# Altium footprint library mems_and_imu_modules.PcbLib: 4 footprints
Each footprint in its own frame and in the unit in brackets; x right, y up, seen from the top. Pads: shape width x height; smd on the part's side, far side on the other; paste and mask are expansions set on the pad; w line width, h text height; cw(c..) or ccw(c..) is an arc to the next point about the centre after c.
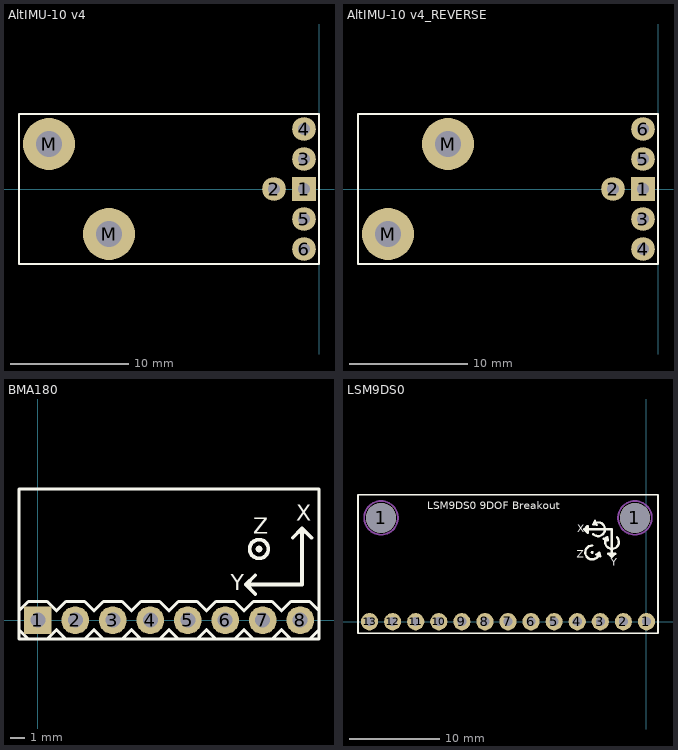
[diagram p0: the footprints below, top view; thin cyan lines are the x and y axes]

## AltIMU-10 v4 [mm] "Pololu Gyro, Accelerometer, Compass, and Altimeter (L3GD20H, LSM303D, and LPS25H Carrier)"
pads (8):
  rect 2x2 hole 1: 1(-1.27,0)
  round 2 hole 1: 2(-3.81,0) 3(-1.27,2.54) 4(-1.27,5.08) 5(-1.27,-2.54) 6(-1.27,-5.08)
  round 4.4 hole 2.2: M(-22.86,3.81) M(-17.78,-3.81)
Top Overlay:
  lines w0.2: -25.4,-6.35 0,-6.35 0,6.35 -25.4,6.35 -25.4,-6.35
3D body: height 1, standoff 0, extent -25.4,-6.35 0,6.35

## AltIMU-10 v4_REVERSE [mm] "Pololu Gyro, Accelerometer, Compass, and Altimeter (L3GD20H, LSM303D, and LPS25H Carrier)"
pads (8):
  rect 2x2 hole 1: 1(-1.27,0)
  round 2 hole 1: 2(-3.81,0) 3(-1.27,-2.54) 4(-1.27,-5.08) 5(-1.27,2.54) 6(-1.27,5.08)
  round 4.4 hole 2.2: M(-22.86,-3.81) M(-17.78,3.81)
Top Overlay:
  lines w0.2: -25.4,-6.35 0,-6.35 0,6.35 -25.4,6.35 -25.4,-6.35
3D body: height 1, standoff 0, extent -25.4,-6.35 0,6.35

## BMA180 [mil] "SEN-09723 (Triple Axis Accelerometer Breakout - BMA180)"
pads (8):
  rect 74x74 hole 40: 1(0,0)
  round 74 hole 40: 2(100,0) 3(200,0) 4(300,0) 5(400,0) 6(500,0) 7(600,0) 8(700,0)
Top Layer:
  lines w10: 299,2 300,0 ; 400,0 402,2
Top Overlay:
  circle w10: c590,190 r25
  circle w8: c590,190 r5
  lines w8: 590,190 590,195 ; -50,-50 -50,350 750,350 750,-50 -50,-50 ; -50,-25 -25,-50 25,-50 50,-25 75,-50 125,-50 150,-25 175,-50 225,-50 250,-25 275,-50 325,-50 350,-25 375,-50 425,-50 450,-25 475,-50 525,-50 550,-25 575,-50 625,-50 650,-25 675,-50 725,-50 750,-25 750,25 725,50 675,50 650,25 625,50 575,50 550,25 525,50 475,50 450,25 425,50 375,50 350,25 325,50 275,50 250,25 225,50 175,50 150,25 125,50 75,50 50,25 25,50 -25,50 -50,25 -50,-25
  lines w10: 580,70 555,95 ; 580,120 555,95 ; 680,220 705,245 ; 730,220 705,245 ; 555,95 705,95 705,245
  text "Y" at 515,80 h42.5
  text "Z" at 575,230 h42.5
  text "X" at 690,265 h42.5
Mechanical 16:
  rectangle: 690,-10 710,10
  rectangle: -10,-10 10,10
  rectangle: 90,-10 110,10
  rectangle: 190,-10 210,10
  rectangle: 290,-10 310,10
  rectangle: 390,-10 410,10
  rectangle: 490,-10 510,10
  rectangle: 590,-10 610,10

## LSM9DS0 [mm] "SEN-12636 (SparkFun 9 Degrees of Freedom IMU Breakout - LSM9DS0)"
pads (15):
  round 3.302 hole 3.302: 1(-29.21,11.43) 1(-1.27,11.43)
  round 1.9 hole 1: 1(0,0) 2(-2.54,0) 3(-5.08,0) 4(-7.62,0) 5(-10.16,0) 6(-12.7,0) 7(-15.24,0) 8(-17.78,0) 9(-20.32,0) 10(-22.86,0) 11(-25.4,0) 12(-27.94,0) 13(-30.48,0)
Top Overlay:
  circle w0.178: c-5.969,7.62 r0.076
  lines w0.127: -5.791,10.795 -5.69,10.693 ; -5.334,7.493 -5.207,7.493 ; -4.42,9.119 -4.318,9.017
  lines w0.203: -31.75,-1.27 1.27,-1.27 1.27,13.97 -31.75,13.97 -31.75,-1.27
  lines w0.254: -5.969,8.382 ccw(c-5.969,7.62) -5.207,7.62 ; -5.842,9.627 ccw(c-5.321,10.173) -5.867,10.693 ; -5.639,10.795 -5.639,10.922 ; -5.309,7.391 -5.232,7.29 ; -4.547,8.966 -4.42,8.966 ; -3.251,9.296 cw(c-3.797,8.776) -4.318,9.322 ; -6.858,10.16 -6.477,9.779 -6.477,10.541 -6.858,10.16 ; -6.858,10.16 -3.81,10.16 -3.81,7.112 ; -5.867,10.693 -5.664,11.1 -5.486,10.643 -5.867,10.693 ; -5.207,7.62 -5.08,7.188 -5.537,7.391 -5.207,7.62 ; -4.318,9.322 -4.724,9.119 -4.267,8.941 -4.318,9.322 ; -3.81,7.112 -4.191,7.493 -3.429,7.493 -3.81,7.112
  text "LSM9DS0 9DOF Breakout" at -24.147,12.393 h0.86
  text "Z" at -7.693,7.059 h0.86
  text "Y" at -3.932,6.175 h0.86
  text "X" at -7.615,9.858 h0.86
Bottom Overlay:
  lines w0.203: -31.75,-0.635 -31.115,-1.27 -29.845,-1.27 -29.21,-0.635 -28.575,-1.27 -27.305,-1.27 -26.67,-0.635 -26.035,-1.27 -24.765,-1.27 -24.13,-0.635 -23.495,-1.27 -22.225,-1.27 -21.59,-0.635 -20.955,-1.27 -19.685,-1.27 -19.05,-0.635 -18.415,-1.27 -17.145,-1.27 -16.51,-0.635 -15.875,-1.27 -14.605,-1.27 -13.97,-0.635 -13.335,-1.27 -12.065,-1.27 -11.43,-0.635 -10.795,-1.27 -9.525,-1.27 -8.89,-0.635 -8.255,-1.27 -6.985,-1.27 -6.35,-0.635 -5.715,-1.27 -4.445,-1.27 -3.81,-0.635 -3.175,-1.27 -1.905,-1.27 -1.27,-0.635 -0.635,-1.27 0.635,-1.27 1.27,-0.635 1.27,0.635 0.635,1.27 -0.635,1.27 -1.27,0.635 -1.905,1.27 -3.175,1.27 -3.81,0.635 -4.445,1.27 -5.715,1.27 -6.35,0.635 -6.985,1.27 -8.255,1.27 -8.89,0.635 -9.525,1.27 -10.795,1.27 -11.43,0.635 -12.065,1.27 -13.335,1.27 -13.97,0.635 -14.605,1.27 -15.875,1.27 -16.51,0.635 -17.145,1.27 -18.415,1.27 -19.05,0.635 -19.685,1.27 -20.955,1.27 -21.59,0.635 -22.225,1.27 -23.495,1.27 -24.13,0.635 -24.765,1.27 -26.035,1.27 -26.67,0.635 -27.305,1.27 -28.575,1.27 -29.21,0.635 -29.845,1.27 -31.115,1.27 -31.75,0.635 -31.75,-0.635
Mechanical 8:
  lines w0.203: -29.21,9.576 ccw(c-29.21,11.43) -29.21,13.284 ccw(c-29.21,11.43) -29.21,9.576 ; -1.27,9.576 ccw(c-1.27,11.43) -1.27,13.284 ccw(c-1.27,11.43) -1.27,9.576
Mechanical 9:
  lines w0.203: -29.21,9.576 ccw(c-29.21,11.43) -29.21,13.284 ccw(c-29.21,11.43) -29.21,9.576 ; -1.27,9.576 ccw(c-1.27,11.43) -1.27,13.284 ccw(c-1.27,11.43) -1.27,9.576
Mechanical 30:
  region: -14.986,0.254 -15.494,0.254 -15.494,-0.254 -14.986,-0.254
  region: -12.446,0.254 -12.954,0.254 -12.954,-0.254 -12.446,-0.254
  region: -9.906,0.254 -10.414,0.254 -10.414,-0.254 -9.906,-0.254
  region: -7.366,0.254 -7.874,0.254 -7.874,-0.254 -7.366,-0.254
  region: -4.826,0.254 -5.334,0.254 -5.334,-0.254 -4.826,-0.254
  region: -2.286,0.254 -2.794,0.254 -2.794,-0.254 -2.286,-0.254
  region: 0.254,0.254 -0.254,0.254 -0.254,-0.254 0.254,-0.254
  region: -30.226,0.254 -30.734,0.254 -30.734,-0.254 -30.226,-0.254
  region: -27.686,0.254 -28.194,0.254 -28.194,-0.254 -27.686,-0.254
  region: -25.146,0.254 -25.654,0.254 -25.654,-0.254 -25.146,-0.254
  region: -22.606,0.254 -23.114,0.254 -23.114,-0.254 -22.606,-0.254
  region: -20.066,0.254 -20.574,0.254 -20.574,-0.254 -20.066,-0.254
  region: -17.526,0.254 -18.034,0.254 -18.034,-0.254 -17.526,-0.254
3D body: height 1.5, standoff 0, extent -31.75,-1.27 1.27,13.97
3D body "User Library-LGA-24.step": height 2.58, standoff 1.5, extent -17.462,4.35 -13.462,8.35
3D body "User Library-CaseA.step": height 3.15, standoff 1.49, extent -13.415,9.868 -9.952,11.468